# EAGLE library part TRANSFORMER (library HyTechDevices - Copy)
2 Channel SMT Transformer Specs for both HM2102NL and HM2112ZNL Transformers Turns ratio: 1CT: 1CT Isolation Voltage: 4300 VDC Inductance: 150 uH Leakage Inductance: 0.50 uH max HM2102NLT: DataSheet <https://www.mouser.com/datasheet/2/336/HM2102NL-1218600.pdf> HM2112ZNLT: DataSheet <https://www.mouser.com/datasheet/2/336/HM2112ZNL-1224892.pdf>
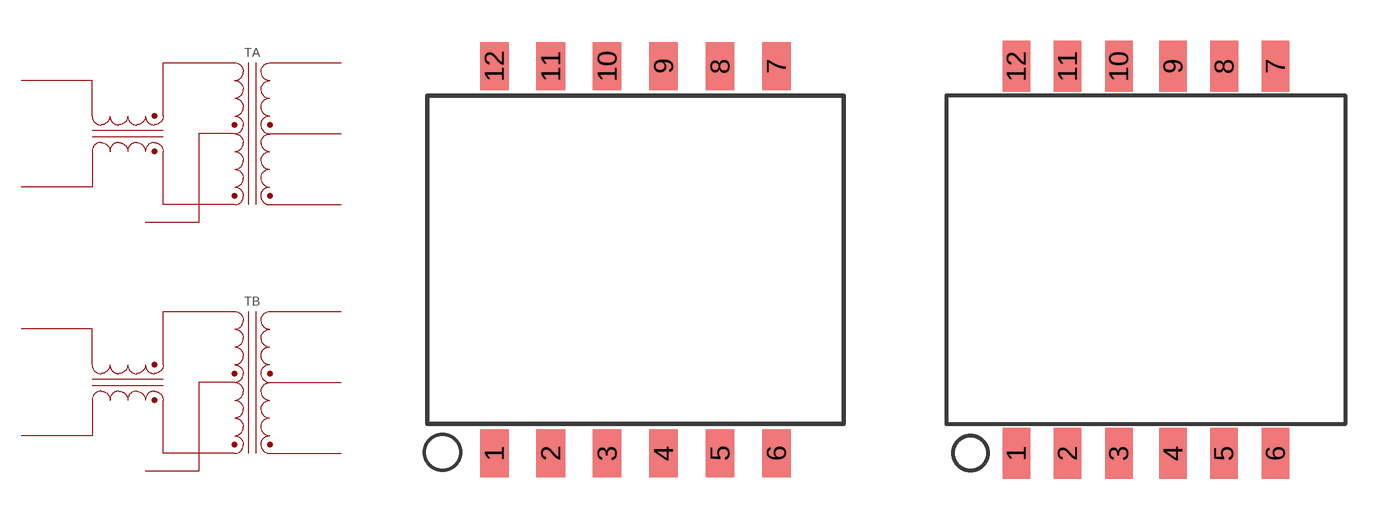
[diagram p0: symbol with the pads of HM2102NLT; footprints HM2102NLT, HM2112ZNLT]

Designator prefix T; gates A=TRANSFORMER B=TRANSFORMER

## TRANSFORMER_HM2102NLT (DKPN: 1840-1034-1-ND; MANUFACTURER: Pulse Electronics Network; MOPN: 673-HM2102NLT; MPN: HM2102NLT)  [HM2102NLT]
1  A:MX+  pas
2  A:MCT  pas
3  A:MX-  pas
4  B:MX+  pas
5  B:MCT  pas
6  B:MX-  pas
7  B:TD-  pas
8  B:TCT  pas
9  B:TD+  pas
10  A:TD-  pas
11  A:TCT  pas
12  A:TD+  pas

## TRANSFORMER_HM2112ZNLT (DKPN: 1840-1036-1-ND; MANUFACTURER: Pulse Electronics; MOPN: 673-HM2112ZNLT; MPN: HM2112ZNLT)  [HM2112ZNLT]
Pads as for HM2102NLT

## TRANSFORMER_HM2112ZNLT_AIRGAP (DKPN: 1840-1036-1-ND; MANUFACTURER: Pulse Electronics; MOPN: 673-HM2112ZNLT; MPN: HM2112ZNLT)  [HM2112ZNLT_AIRGAP]
Pads as for HM2102NLT

## Footprint HM2102NLT (pad centres in mm)
HM2102NL Transformer Datasheet <https://www.mouser.com/datasheet/2/336/HM2102NL-1218600.pdf>
smd 1.016 x 1.714: 1 -5.016,-6.89; 2 -3.01,-6.89; 3 -1.003,-6.89; 4 1.003,-6.89; 5 3.01,-6.89; 6 5.016,-6.89; 7 5.016,6.89; 8 3.01,6.89; 9 1.003,6.89; 10 -1.003,6.89; 11 -3.01,6.89; 12 -5.016,6.89

## Footprint HM2112ZNLT (pad centres in mm)
HM2112ZNL Transformer Datasheet <https://www.mouser.com/datasheet/2/336/HM2112ZNL-1224892.pdf>
smd 1.02 x 1.89: 1 -4.78,-7.145; 2 -2.89,-7.145; 3 -1,-7.145; 4 1,-7.145; 5 2.875,-7.145; 6 4.78,-7.145; 7 4.78,7.145; 8 2.89,7.145; 9 1,7.145; 10 -1,7.145; 11 -2.89,7.145; 12 -4.78,7.145

## Footprint HM2112ZNLT_AIRGAP (pad centres in mm)
HM2112ZNL Transformer Datasheet <https://www.mouser.com/datasheet/2/336/HM2112ZNL-1224892.pdf>
smd 1.02 x 1.89: 1 -4.78,-7.145; 2 -2.89,-7.145; 3 -1,-7.145; 4 1,-7.145; 5 2.875,-7.145; 6 4.78,-7.145; 7 4.78,7.145; 8 2.89,7.145; 9 1,7.145; 10 -1,7.145; 11 -2.89,7.145; 12 -4.78,7.145